# Altium footprint library TRANSFORMERS.PcbLib: 1 footprints
Each footprint in its own frame and in the unit in brackets; x right, y up, seen from the top. Pads: shape width x height; smd on the part's side, far side on the other; paste and mask are expansions set on the pad; w line width, h text height; cw(c..) or ccw(c..) is an arc to the next point about the centre after c.
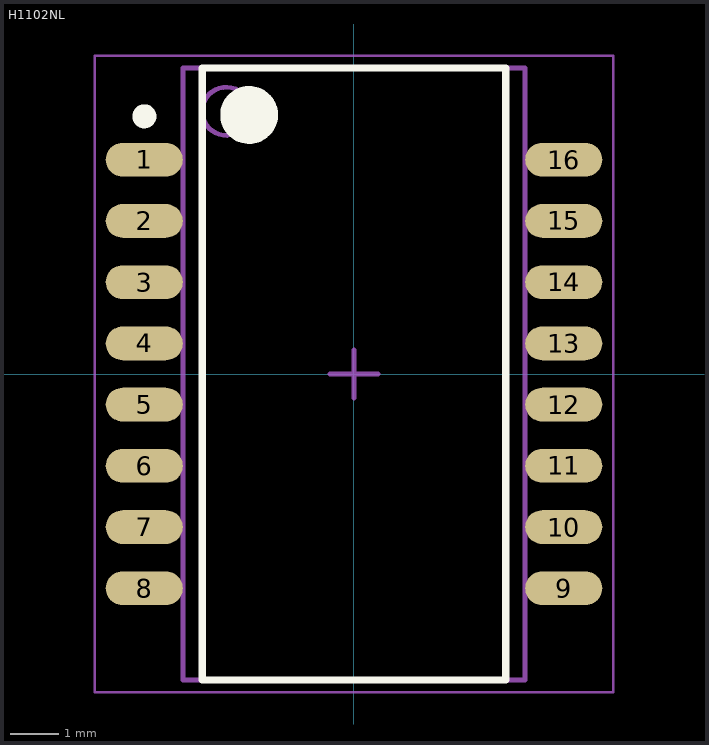
[diagram p0: the footprint, top view; thin cyan lines are the x and y axes]

## H1102NL [mm] "SOIC, 16-Leads, Body 12,70x7,10mm, Pitch 1,27mm, IPC Medium Density"
height 5.97
pads (16):
  oval 1.6x0.7 smd: 1(-4.35,4.445) 2(-4.35,3.175) 3(-4.35,1.905) 4(-4.35,0.635) 5(-4.35,-0.635) 6(-4.35,-1.905) 7(-4.35,-3.175) 8(-4.35,-4.445) 9(4.35,-4.445) 10(4.35,-3.175) 11(4.35,-1.905) 12(4.35,-0.635) 13(4.35,0.635) 14(4.35,1.905) 15(4.35,3.175) 16(4.35,4.445)
Top Overlay:
  circle w0.6: c-2.175,5.375 r0.3
  circle w0.25: c-4.35,5.345 r0.125
  lines w0.15: -3.15,-6.35 3.15,-6.35 3.15,6.35 -3.15,6.35 -3.15,-6.35
Mechanical 14:
  circle w0.1: c-2.65,5.45 r0.5
  lines w0.1: -3.55,-6.35 3.55,-6.35 3.55,6.35 -3.55,6.35 -3.55,-6.35
  text ".Designator" at -0.7,-0.8 h1
Mechanical 15:
  lines w0.05: -5.375,-6.6 5.375,-6.6 5.375,6.6 -5.375,6.6 -5.375,-6.6
  lines w0.1: -0.5,0 0.5,0 ; 0,-0.5 0,0.5
3D body "SOIC127P940X597-16N.step": height 5.97, standoff 0, extent -4.699,-6.35 4.699,6.35